# Altium schematic symbol library samsung-flash.SchLib: 1 symbol
Pins are listed as number, name and electrical type; pins without a type are passive.

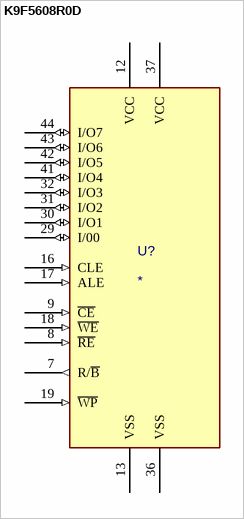
[diagram p0: symbol K9F5608R0D]

## K9F5608R0D
designator U?
Value: K9F5608R0D; Package: *; ExtraInfo: *; PN: *
footprint TSSOP50P2000X100-48L (TSSOP, 48-Leads, Body 12.4x18.4mm (max), Pitch 0.50mm, IPC High Density)
pins: 7 R/~{B} (out), 8 ~{RE} (in), 9 ~{CE} (in), 12 VCC (power), 13 VSS (power), 16 CLE (in), 17 ALE (in), 18 ~{WE} (in), 19 ~{WP} (in), 29 I/00 (io), 30 I/O1 (io), 31 I/O2 (io), 32 I/O3 (io), 36 VSS (power), 37 VCC (power), 41 I/O4 (io), 42 I/O5 (io), 43 I/O6 (io), 44 I/O7 (io)